# EAGLE library part MCP6022 (library microbuilder)
MCP6022 - Dual Rail-to-Rail 10MHz Op-Amp Digikey: SOIC8 - MCP6022-I/SN-ND
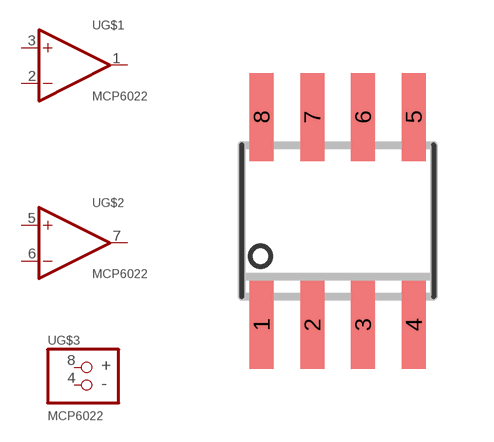
[diagram p85: symbol with the pads of SOIC8; footprint SOIC8]

Designator prefix U; gates G$1=OPAMP G$2=OPAMP G$3=POWER

## MCP6022  [SOIC8]
1  G$1:OUT  out
2  G$1:-IN  in
3  G$1:+IN  in
4  G$3:-  pas
5  G$2:+IN  in
6  G$2:-IN  in
7  G$2:OUT  out
8  G$3:+  pas

## Footprint SOIC8 (pad centres in mm)
Small Outline IC
smd 0.6 x 2.2: 1 -1.905,-2.6; 2 -0.635,-2.6; 3 0.635,-2.6; 4 1.905,-2.6; 5 1.905,2.6; 6 0.635,2.6; 7 -0.635,2.6; 8 -1.905,2.6